# Altium schematic symbol library SBv1Components.SchLib: 3 symbols
Pins are listed as number, name and electrical type; pins without a type are passive.

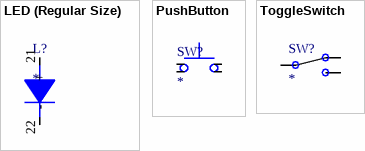
[diagram p0: symbols LED (Regular Size) to ToggleSwitch]

## LED (Regular Size)
designator L?
footprint LEDFOOTPRINT; pin to pad 21>1 22>0
pins: 21 +, 22 -

## PushButton
designator SW?
footprint PushButton; pin to pad 26>5 27>7 28>6 29>8
pins: 26, 27, 28, 29

## ToggleSwitch
designator SW?
footprint SWITCHFOOTPRINT; pin to pad 23>3 24>2 25>4
pins: 23, 24, 25